# Altium schematic symbol library 智能车主板.SchLib: 39 symbols
Pins are listed as number, name and electrical type; pins without a type are passive.

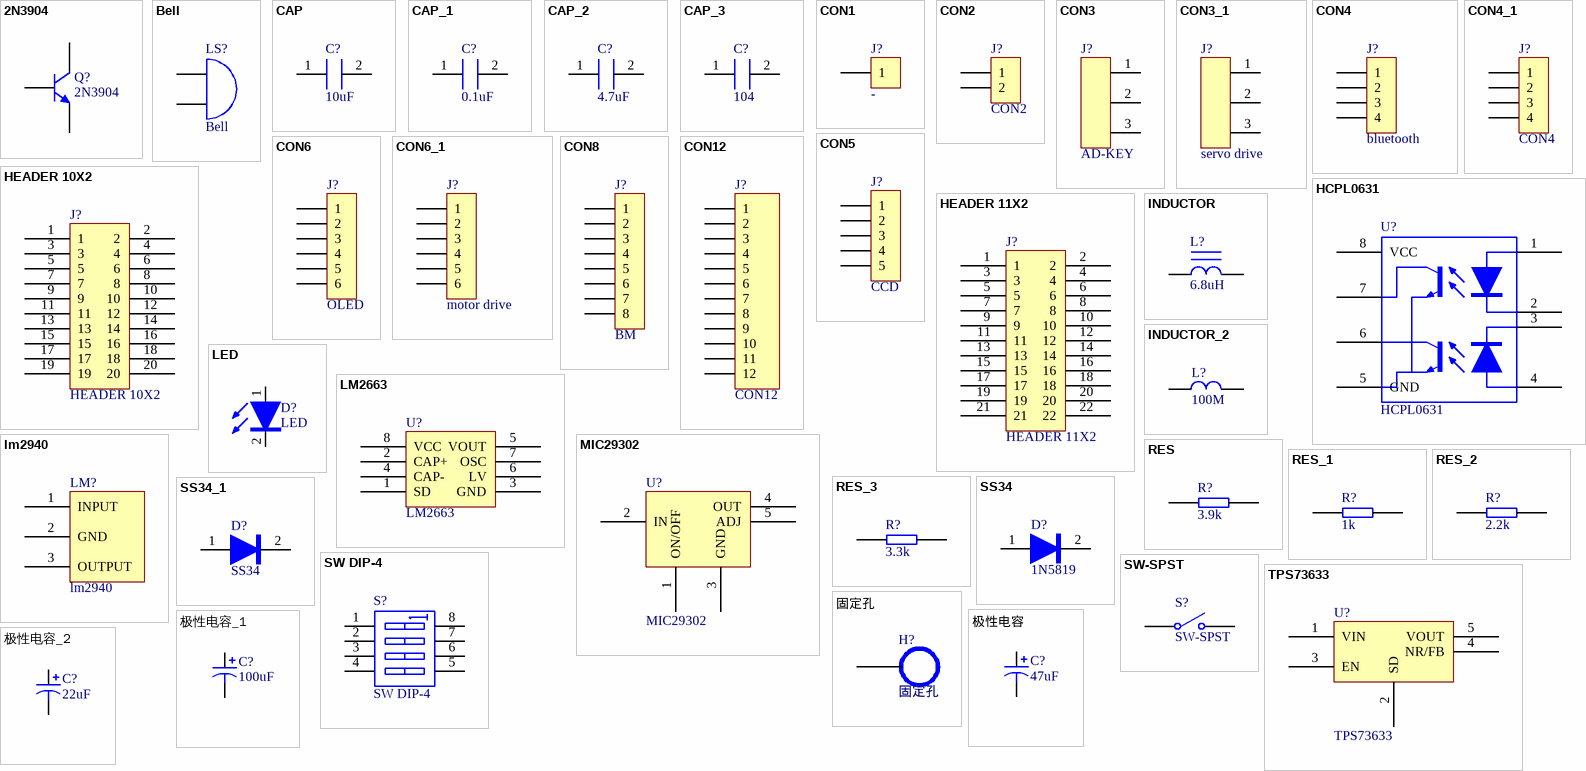
[diagram p0: symbols 2N3904 to 极性电容_2]

## 2N3904
designator Q?
NPN General Purpose Amplifier; Published: 8-Jun-2000; LatestRevisionDate: 15-Jan-2003; LatestRevisionNote: PCB Footprint 'BCY-W3/D4.7' replaced; DatasheetDocument: 1997; PackageDocument: Sep-1998; PackageReference: TO-92A; Publisher: Altium Limited; Code_JEDEC: TO-92A; ComponentLink1Description: Manufacturer Link; ComponentLink1URL: http://www.fairchildsemi.com/; ComponentLink2Description: Datasheet; ComponentLink2URL: http://www.fairchildsemi.com/ds/2N%2F2N3904.pdf
footprint TO-92A (TO, Flat Index; 3 In-Line, Axial Leads; Body Dia. 4.5mm; Leads 0.51 x 0.48 mm (max))
simulation model 2N3904 (NPN)
signal-integrity model 2N3904
pins: 1 E, 2 B, 3 C

## Bell
designator LS?
Electrical Bell; Published: 24-Mar-1999; LatestRevisionDate: 17-Jul-2002; LatestRevisionNote: Re-released for DXP Platform.; PackageReference: PIN2; Publisher: Altium Limited
footprint 蜂鸣器侧装
pins: 1 A, 2 B

## CAP
designator C?, comment 10uF
电容
footprint 0805C (Footprint not found)
pins: 1, 2

## CAP_1
designator C?, comment 0.1uF
电容
footprint 0805C (Footprint not found)
pins: 1, 2

## CAP_2
designator C?, comment 4.7uF
电容
footprint 0805C (Footprint not found)
pins: 1, 2

## CAP_3
designator C?, comment 104
电容
footprint 0805C (Footprint not found)
pins: 1, 2

## CON1
designator J?, comment -
Connector
footprint 单面焊盘2*3MM_1PIN (Footprint not found)
footprint 单面焊盘2*3MM_1PIN (Footprint not found)
footprint 单面焊盘2*3MM_1PIN (Footprint not found)
pins: 1
2 alternate drawings of the same symbol

## CON2
designator J?
Connector
footprint 2PIN杜邦插座_1.27mm
pins: 1, 2
2 alternate drawings of the same symbol

## CON3
designator J?, comment AD-KEY
SOCKET
footprint HDR1X3 (Connector; Header; 3 Position)
pins: 1, 2, 3

## CON3_1
designator J?, comment servo drive
SOCKET
footprint HDR1X3 (Connector; Header; 3 Position)
pins: 1, 2, 3

## CON4
designator J?, comment bluetooth
Connector
footprint HDR1X4 (Connector; Header; 4 Position)
pins: 1, 2, 3, 4
2 alternate drawings of the same symbol

## CON4_1
designator J?, comment CON4
Connector
footprint B0505S-2W
pins: 1, 2, 3, 4
2 alternate drawings of the same symbol

## CON5
designator J?, comment CCD
Connector
footprint HDR1X5 (Connector; Header; 5 Position)
pins: 1, 2, 3, 4, 5
2 alternate drawings of the same symbol

## CON6
designator J?, comment OLED
Connector
footprint HDR1X6 (Connector; Header; 6 Position)
pins: 1, 2, 3, 4, 5, 6
2 alternate drawings of the same symbol

## CON6_1
designator J?, comment motor drive
Connector
footprint HDR2X3 (Connector; Header; 3x2 Position)
pins: 1, 2, 3, 4, 5, 6
2 alternate drawings of the same symbol

## CON8
designator J?, comment BM
Connector
footprint HDR2X4 (Connector; Header; 4x2 Position)
pins: 1, 2, 3, 4, 5, 6, 7, 8
2 alternate drawings of the same symbol

## CON12
designator J?
Connector
footprint HDR2X6 (Connector; Header; 6x2 Position)
pins: 1, 2, 3, 4, 5, 6, 7, 8, 9, 10, 11, 12
2 alternate drawings of the same symbol

## HCPL0631
designator U?
光耦
footprint SOP_8(OPA) (Footprint not found)
pins: 1, 2, 3, 4, 5 GND, 6, 7, 8 VCC

## HEADER 10X2
designator J?
排针
footprint HDR2X10 (Connector; Header; 10x2 Position)
pins: 1, 2, 3, 4, 5, 6, 7, 8, 9, 10, 11, 12, 13, 14, 15, 16, 17, 18, 19, 20

## HEADER 11X2
designator J?
排针
footprint HDR2X11 (Connector; Header; 11x2 Position)
pins: 1, 2, 3, 4, 5, 6, 7, 8, 9, 10, 11, 12, 13, 14, 15, 16, 17, 18, 19, 20, 21, 22

## INDUCTOR
designator L?, comment 6.8uH
电感
footprint CDRH3D16_4.2*1.8 (Footprint not found)
pins: 1, 2

## INDUCTOR_2
designator L?, comment 100M
footprint 0603L (Footprint not found)
pins: 1, 2

## LED
designator D?
footprint 0805D (Footprint not found)
pins: 1, 2

## LM2663
designator U?
IC
footprint SOP_8(OPA) (Footprint not found)
pins: 1 SD, 2 CAP+, 3 GND, 4 CAP-, 5 VOUT, 6 LV, 7 OSC, 8 VCC

## lm2940
designator LM?
IC
footprint SOT-223 (Footprint not found)
pins: 1 INPUT, 2 GND, 3 OUTPUT

## MIC29302
designator U?
IC
footprint TO_263_5(10.5*8.4mm) (Footprint not found)
pins: 1 ON/OFF, 2 IN, 3 GND, 4 OUT, 5 ADJ

## RES
designator R?, comment 3.9k
电阻
footprint 0805R (Footprint not found)
pins: 1, 2

## RES_1
designator R?, comment 1k
电阻
footprint 0805R (Footprint not found)
pins: 1, 2

## RES_2
designator R?, comment 2.2k
电阻
footprint 0603R (Footprint not found)
pins: 1, 2

## RES_3
designator R?, comment 3.3k
电阻
footprint 0603R (Footprint not found)
pins: 1, 2

## SS34
designator D?, comment 1N5819
二极管
footprint 0805D (Footprint not found)
pins: 1, 2

## SS34_1
designator D?, comment SS34
二极管
footprint 0805D (Footprint not found)
pins: 1, 2

## SW DIP-4
designator S?
DIP Switch
footprint 4路拨码开关
pins: 1 A1, 2 A2, 3 A3, 4 A4, 5 B4, 6 B3, 7 B2, 8 B1
2 alternate drawings of the same symbol

## SW-SPST
designator S?
Single-Pole, Single-Throw Switch; Published: 24-Mar-1999; LatestRevisionDate: 17-Jul-2002; LatestRevisionNote: Re-released for DXP Platform.; PackageReference: SPST-2; Publisher: Altium Limited; PackageDescription: Switch; 2 Leads
footprint SPST-2 (Switch; 2 Leads)
footprint 开关
pins: 1 COMMON, 2 NO

## TPS73633
designator U?
IC
footprint SOT23_5-LEADS (Footprint not found)
pins: 1 VIN, 2 SD, 3 EN, 4 NR/FB, 5 VOUT

## 固定孔
designator H?
footprint 铜柱孔3
pins: 11

## 极性电容
designator C?, comment 47uF
极性电容
footprint C型钽电容_6032_28 (Footprint not found)
pins: 1, 2

## 极性电容_1
designator C?, comment 100uF
极性电容
footprint D型钽电容_7343_31 (Footprint not found)
pins: 1, 2

## 极性电容_2
designator C?, comment 22uF
极性电容
footprint B型钽电容_3528_21 (Footprint not found)
pins: 1, 2